# EAGLE library part HEADER-0.1IN-6POS (library Components)
6 pin single inline pin header, socket, or connector
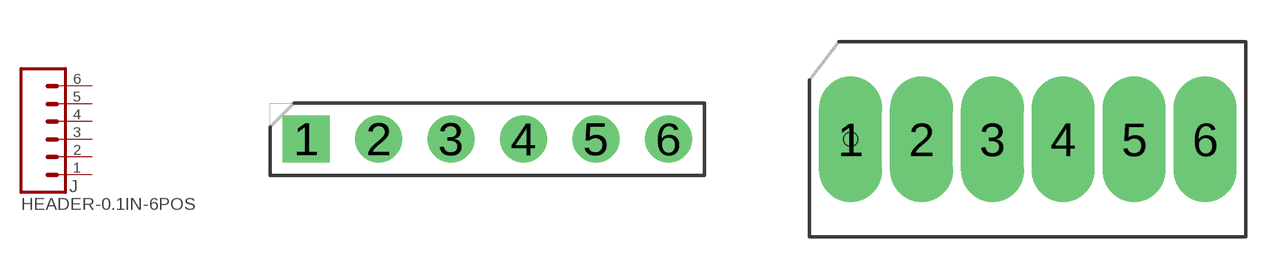
[diagram p0: symbol with the pads of HDRV6W63P254_6X1_1524X254H838_HS; footprints HDRV6W63P254_6X1_1524X254H838_HS, SCREW-TERMINAL-1X6-2.54MM]

Designator prefix J

## HEADER-0.1IN-6POS-FEMALE (DIST: MISSING; DISTPN: MISSING)  [HDRV6W63P254_6X1_1524X254H838_HS]
1  1  pas
2  2  pas
3  3  pas
4  4  pas
5  5  pas
6  6  pas

## HEADER-0.1IN-6POS-MALE (DIST: Digikey; DISTPN: 3M9451-ND; PIN1: 1; PIN2: 2; PIN3: 3; PIN4: 4; PIN5: 5; PIN6: 6)  [HDRV6W63P254_6X1_1524X254H838_HS]
Pads as for HDRV6W63P254_6X1_1524X254H838_HS

## HEADER-0.1IN-6POS-SCREW (DIST: Digikey; DISTPN: ED10565-ND; PIN1: 1; PIN2: 2; PIN3: 3; PIN4: 4; PIN5: 5; PIN6: 6)  [SCREW-TERMINAL-1X6-2.54MM]
Pads as for HDRV6W63P254_6X1_1524X254H838_HS

## Footprint HDRV6W63P254_6X1_1524X254H838_HS (pad centres in mm)
Header, Vertical, 2.54 mm pitch; 0.635 mm lead width, 6 pins, 1 row, 6 pins per row, 15.24 mm L X 2.54 mm W X 8.38 mm H body PCB Libraries Packages
drill 1.1 pad 1.65 square: 1 0,0
drill 1.1 pad 1.65: 2 2.54,0; 3 5.08,0; 4 7.62,0; 5 10.16,0; 6 12.7,0

## Footprint SCREW-TERMINAL-1X6-2.54MM (pad centres in mm)
drill 1.5 pad 1.778 long: 1 0,0; 2 2.54,0; 3 5.08,0; 4 7.62,0; 5 10.16,0; 6 12.7,0